# Altium footprint library CI.PcbLib: 7 footprints
Each footprint in its own frame and in the unit in brackets; x right, y up, seen from the top. Pads: shape width x height; smd on the part's side, far side on the other; paste and mask are expansions set on the pad; w line width, h text height; cw(c..) or ccw(c..) is an arc to the next point about the centre after c.
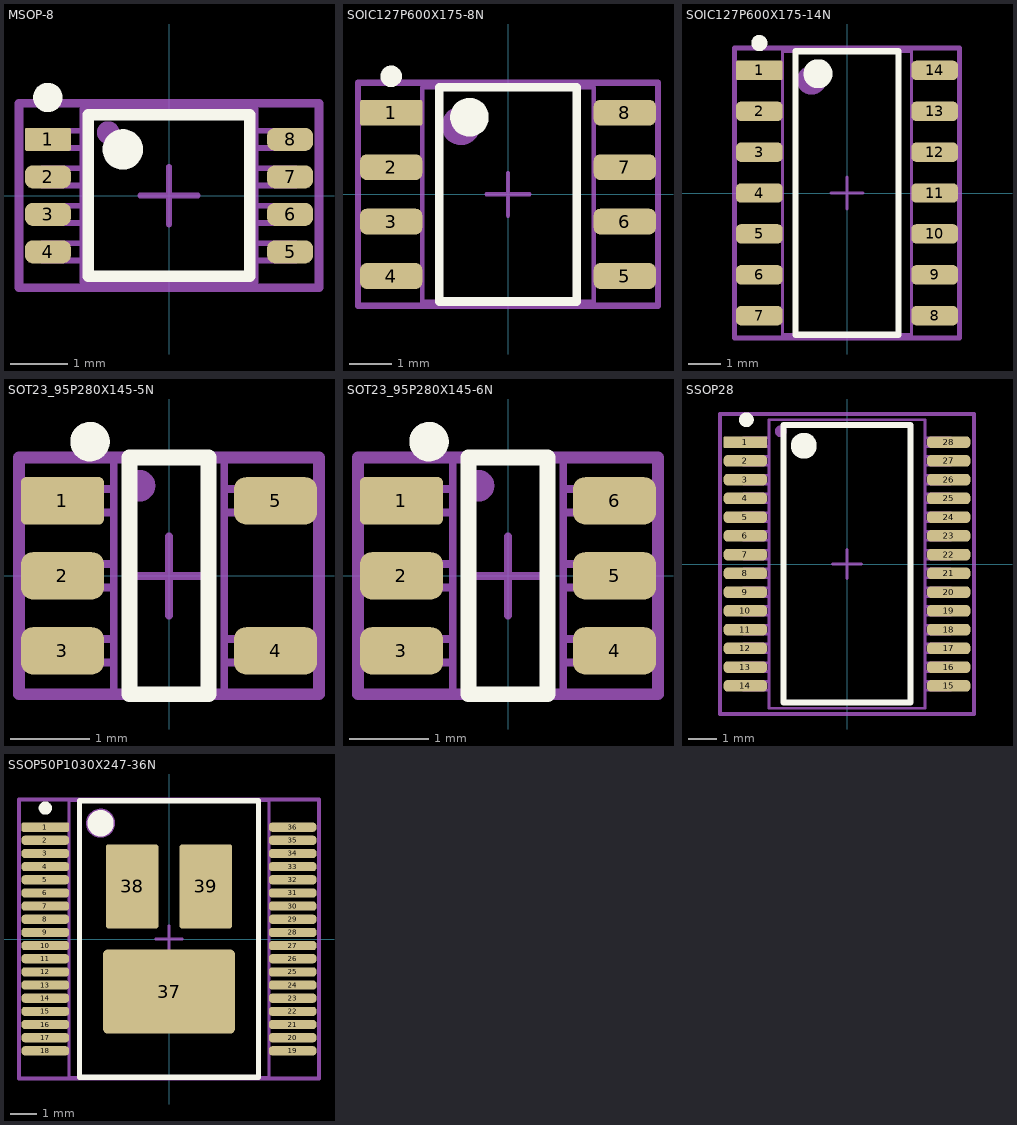
[diagram p0: the footprints below, top view; thin cyan lines are the x and y axes]

## MSOP-8 [mm]
pads (8):
  rrect15% 0.8x0.4 smd: 1(-2.1,0.975)
  rrect70% 0.8x0.4 smd: 2(-2.1,0.325) 3(-2.1,-0.325) 4(-2.1,-0.975) 5(2.1,-0.975) 6(2.1,-0.325) 7(2.1,0.325) 8(2.1,0.975)
Top Overlay:
  circle w0.4: c-0.8,0.8 r0.15
  circle w0.254: c-2.1,1.7 r0.127
  lines w0.2: -1.4,-1.4 1.4,-1.4 1.4,1.4 -1.4,1.4 -1.4,-1.4
Mechanical 13:
  circle w0.254: c-1.054,1.092 r0.068
  lines w0.1: -1.5,-1.125 -2.2,-1.125 -2.2,-0.825 -1.5,-0.825 ; -1.5,-0.475 -2.2,-0.475 -2.2,-0.175 -1.5,-0.175 ; -1.5,0.175 -2.2,0.175 -2.2,0.475 -1.5,0.475 ; -1.5,0.825 -2.2,0.825 -2.2,1.125 -1.5,1.125 ; 1.5,-1.125 2.2,-1.125 2.2,-0.825 1.5,-0.825 ; 1.5,-0.475 2.2,-0.475 2.2,-0.175 1.5,-0.175 ; 1.5,0.175 2.2,0.175 2.2,0.475 1.5,0.475 ; 1.5,0.825 2.2,0.825 2.2,1.125 1.5,1.125 ; -1.5,-1.5 -1.5,1.5 1.5,1.5 1.5,-1.5 -1.5,-1.5
Mechanical 15:
  lines w0.1: -0.5,0 0.5,0 ; 0,-0.5 0,0.5
  lines w0.15: -2.6,-1.6 2.6,-1.6 2.6,1.6 -2.6,1.6 -2.6,-1.6
Mechanical 17:
  text ".Designator" at -1.046,-0.162 h1.5
3D body "User Library-MO-187F.step": height 1.08, standoff -0.02, extent -2.46,-1.5 2.46,1.5

## SOIC127P600X175-8N [mm] "SOIC, 8-Leads, Body 4,90x3,90mm, Pitch 1,27mm, IPC Medium Density"
height 1.75
pads (8):
  rrect15% 1.45x0.6 smd: 1(-2.725,1.905)
  rrect50% 1.45x0.6 smd: 2(-2.725,0.635) 3(-2.725,-0.635) 4(-2.725,-1.905) 5(2.725,-1.905) 6(2.725,-0.635) 7(2.725,0.635) 8(2.725,1.905)
Top Overlay:
  circle w0.5: c-0.9,1.8 r0.2
  circle w0.25: c-2.725,2.755 r0.125
  lines w0.2: -1.6,-2.5 -1.6,2.5 1.6,2.5 1.6,-2.5 -1.6,-2.5
Mechanical 13:
  circle w0.5: c-1.1,1.6 r0.2
  lines w0.1: -2,-2.05 -2.7,-2.05 -2.7,-1.75 -2,-1.75 ; -2,-0.78 -2.7,-0.78 -2.7,-0.48 -2,-0.48 ; -2,0.49 -2.7,0.49 -2.7,0.79 -2,0.79 ; -2,1.76 -2.7,1.76 -2.7,2.06 -2,2.06 ; 2,-2.06 2.7,-2.06 2.7,-1.76 2,-1.76 ; 2,-0.79 2.7,-0.79 2.7,-0.49 2,-0.49 ; 2,0.48 2.7,0.48 2.7,0.78 2,0.78 ; 2,1.75 2.7,1.75 2.7,2.05 2,2.05 ; -2,-2.5 -2,2.5 2,2.5 2,-2.5 -2,-2.5
Mechanical 15:
  lines w0.1: -0.5,0 0.5,0 ; 0,-0.5 0,0.5
  lines w0.15: -3.5,-2.6 -3.5,2.6 3.5,2.6 3.5,-2.6 -3.5,-2.6
Mechanical 17:
  text ".Designator" at -1.046,-0.162 h1.5
3D body "SOIC127P600-8 (SO-8)2.stp": height 1.7, standoff 0, extent -3,-2.54 3,2.54

## SOIC127P600X175-14N [mm] "SOIC, 14-Leads, Body 8,62x3,90mm, Pitch 1,27mm, IPC Medium Density"
height 1.75
pads (14):
  rrect15% 1.45x0.6 smd: 1(-2.725,3.81)
  rrect50% 1.45x0.6 smd: 2(-2.725,2.54) 3(-2.725,1.27) 4(-2.725,0) 5(-2.725,-1.27) 6(-2.725,-2.54) 7(-2.725,-3.81) 8(2.725,-3.81) 9(2.725,-2.54) 10(2.725,-1.27) 11(2.725,0) 12(2.725,1.27) 13(2.725,2.54) 14(2.725,3.81)
Top Overlay:
  circle w0.5: c-0.9,3.705 r0.2
  circle w0.25: c-2.725,4.66 r0.125
  lines w0.2: -1.6,-4.405 -1.6,4.405 1.6,4.405 1.6,-4.405 -1.6,-4.405
Mechanical 13:
  circle w0.5: c-1.1,3.505 r0.2
  lines w0.1: -2,-3.955 -2.7,-3.955 -2.7,-3.655 -2,-3.655 ; -2,-2.685 -2.7,-2.685 -2.7,-2.385 -2,-2.385 ; -2,-1.415 -2.7,-1.415 -2.7,-1.115 -2,-1.115 ; -2,-0.145 -2.7,-0.145 -2.7,0.155 -2,0.155 ; -2,1.125 -2.7,1.125 -2.7,1.425 -2,1.425 ; -2,2.395 -2.7,2.395 -2.7,2.695 -2,2.695 ; -2,3.665 -2.7,3.665 -2.7,3.965 -2,3.965 ; 2,-3.965 2.7,-3.965 2.7,-3.665 2,-3.665 ; 2,-2.695 2.7,-2.695 2.7,-2.395 2,-2.395 ; 2,-1.425 2.7,-1.425 2.7,-1.125 2,-1.125 ; 2,-0.155 2.7,-0.155 2.7,0.145 2,0.145 ; 2,1.115 2.7,1.115 2.7,1.415 2,1.415 ; 2,2.385 2.7,2.385 2.7,2.685 2,2.685 ; 2,3.655 2.7,3.655 2.7,3.955 2,3.955 ; -2,-4.405 2,-4.405 2,4.405 -2,4.405 -2,-4.405
Mechanical 15:
  lines w0.1: -0.5,0 0.5,0 ; 0,-0.5 0,0.5
  lines w0.15: -3.5,-4.505 -3.5,4.505 3.5,4.505 3.5,-4.505 -3.5,-4.505
Mechanical 17:
  text ".Designator" at -1.046,-0.162 h1.5
3D body "SOIC127P600-14 (SO-14).stp": height 1.7, standoff 0, extent -3,-4.445 3,4.445

## SOT23_95P280X145-5N [mm] "SOT23, 5-Leads, Body 3,1x3,2mm (max), Pitch 0,95mm, IPC Medium Densit"
height 1.45
pads (5):
  rrect20% 1.05x0.6 smd paste-0.05 mask+0.07: 1(-1.35,0.95)
  rrect50% 1.05x0.6 smd paste-0.05 mask+0.07: 2(-1.35,0) 3(-1.35,-0.95) 4(1.35,-0.95) 5(1.35,0.95)
Top Overlay:
  circle w0.25: c-1,1.7 r0.125
  lines w0.2: -0.5,-1.5 0.5,-1.5 0.5,1.5 -0.5,1.5 -0.5,-1.5
Mechanical 13:
  circle w0.2: c-0.374,1.142 r0.1
  lines w0.1: -0.7,-1.1 -1.4,-1.1 -1.4,-0.8 -0.7,-0.8 ; -0.7,-0.15 -1.4,-0.15 -1.4,0.15 -0.7,0.15 ; -0.7,0.8 -1.4,0.8 -1.4,1.1 -0.7,1.1 ; 0.7,-1.1 1.4,-1.1 1.4,-0.8 0.7,-0.8 ; 0.7,0.8 1.4,0.8 1.4,1.1 0.7,1.1 ; -0.7,-1.525 -0.7,1.525 0.7,1.525 0.7,-1.525 -0.7,-1.525
Mechanical 15:
  lines w0.1: -0.5,0 0.5,0 ; 0,-0.5 0,0.5
  lines w0.15: -1.9,-1.5 -1.9,1.5 1.9,1.5 1.9,-1.5 -1.9,-1.5
Mechanical 17:
  text ".Designator" at -0.162,1.046 h1
3D body "SOT23_95P280X145-5N.stp": height 1.45, standoff 0, extent -1.6,-1.55 1.6,1.55

## SOT23_95P280X145-6N [mm] "SOT23, 6-Leads, Body 3,1x3,2mm (max), Pitch 0,95mm, IPC Medium Densit"
height 1.45
pads (6):
  rrect20% 1.05x0.6 smd paste-0.05 mask+0.07: 1(-1.35,0.95)
  rrect50% 1.05x0.6 smd paste-0.05 mask+0.07: 2(-1.35,0) 3(-1.35,-0.95) 4(1.35,-0.95) 5(1.35,0) 6(1.35,0.95)
Top Overlay:
  circle w0.25: c-1,1.7 r0.125
  lines w0.2: -0.5,-1.5 0.5,-1.5 0.5,1.5 -0.5,1.5 -0.5,-1.5
Mechanical 13:
  circle w0.2: c-0.374,1.142 r0.1
  lines w0.1: -0.7,-1.1 -1.4,-1.1 -1.4,-0.8 -0.7,-0.8 ; -0.7,-0.15 -1.4,-0.15 -1.4,0.15 -0.7,0.15 ; -0.7,0.8 -1.4,0.8 -1.4,1.1 -0.7,1.1 ; 0.7,-1.1 1.4,-1.1 1.4,-0.8 0.7,-0.8 ; 0.7,-0.15 1.4,-0.15 1.4,0.15 0.7,0.15 ; 0.7,0.8 1.4,0.8 1.4,1.1 0.7,1.1 ; -0.7,-1.525 -0.7,1.525 0.7,1.525 0.7,-1.525 -0.7,-1.525
Mechanical 15:
  lines w0.1: -0.5,0 0.5,0 ; 0,-0.5 0,0.5
  lines w0.15: -1.9,-1.5 -1.9,1.5 1.9,1.5 1.9,-1.5 -1.9,-1.5
Mechanical 17:
  text ".Designator" at -0.162,1.046 h1
3D body "SOT-23-6.STEP": height 1.45, standoff 0, extent -1.5,-1.525 1.5,1.525

## SSOP28 [mm]
pads (28):
  rrect15% 1.5x0.4 smd: 1(-3.525,4.225)
  rrect70% 1.5x0.4 smd: 2(-3.525,3.575) 3(-3.525,2.925) 4(-3.525,2.275) 5(-3.525,1.625) 6(-3.525,0.975) 7(-3.525,0.325) 8(-3.525,-0.325) 9(-3.525,-0.975) 10(-3.525,-1.625) 11(-3.525,-2.275) 12(-3.525,-2.925) 13(-3.525,-3.575) 14(-3.525,-4.225) 15(3.525,-4.225) 16(3.525,-3.575) 17(3.525,-2.925) 18(3.525,-2.275) 19(3.525,-1.625) 20(3.525,-0.975) 21(3.525,-0.325) 22(3.525,0.325) 23(3.525,0.975) 24(3.525,1.625) 25(3.525,2.275) 26(3.525,2.925) 27(3.525,3.575) 28(3.525,4.225)
Top Overlay:
  circle w0.5: c-1.5,4.1 r0.2
  circle w0.254: c-3.486,5 r0.127
  lines w0.2: -2.2,-4.8 -2.2,4.816 2.2,4.816 2.2,-4.8 -2.2,-4.8
Mechanical 13:
  circle w0.2: c-2.3,4.6 r0.1
  lines w0.1: -2.698,-4.375 -3.587,-4.375 -3.587,-4.075 -2.698,-4.075 ; -2.698,-3.725 -3.587,-3.725 -3.587,-3.425 -2.698,-3.425 ; -2.698,-3.075 -3.587,-3.075 -3.587,-2.775 -2.698,-2.775 ; -2.698,-2.425 -3.587,-2.425 -3.587,-2.125 -2.698,-2.125 ; -2.698,-1.775 -3.587,-1.775 -3.587,-1.475 -2.698,-1.475 ; -2.698,-1.125 -3.587,-1.125 -3.587,-0.825 -2.698,-0.825 ; -2.698,-0.475 -3.587,-0.475 -3.587,-0.175 -2.698,-0.175 ; -2.698,0.175 -3.587,0.175 -3.587,0.475 -2.698,0.475 ; -2.698,0.825 -3.587,0.825 -3.587,1.125 -2.698,1.125 ; -2.698,1.475 -3.587,1.475 -3.587,1.775 -2.698,1.775 ; -2.698,2.125 -3.587,2.125 -3.587,2.425 -2.698,2.425 ; -2.698,2.775 -3.587,2.775 -3.587,3.075 -2.698,3.075 ; -2.698,3.425 -3.587,3.425 -3.587,3.725 -2.698,3.725 ; -2.698,4.075 -3.587,4.075 -3.587,4.375 -2.698,4.375 ; 2.698,-4.375 3.587,-4.375 3.587,-4.075 2.698,-4.075 ; 2.698,-3.725 3.587,-3.725 3.587,-3.425 2.698,-3.425 ; 2.698,-3.075 3.587,-3.075 3.587,-2.775 2.698,-2.775 ; 2.698,-2.425 3.587,-2.425 3.587,-2.125 2.698,-2.125 ; 2.698,-1.775 3.587,-1.775 3.587,-1.475 2.698,-1.475 ; 2.698,-1.125 3.587,-1.125 3.587,-0.825 2.698,-0.825 ; 2.698,-0.475 3.587,-0.475 3.587,-0.175 2.698,-0.175 ; 2.698,0.175 3.587,0.175 3.587,0.475 2.698,0.475 ; 2.698,0.825 3.587,0.825 3.587,1.125 2.698,1.125 ; 2.698,1.475 3.587,1.475 3.587,1.775 2.698,1.775 ; 2.698,2.125 3.587,2.125 3.587,2.425 2.698,2.425 ; 2.698,2.775 3.587,2.775 3.587,3.075 2.698,3.075 ; 2.698,3.425 3.587,3.425 3.587,3.725 2.698,3.725 ; 2.698,4.075 3.587,4.075 3.587,4.375 2.698,4.375 ; -2.7,-5 2.7,-5 2.7,5 -2.7,5 -2.7,-5
Mechanical 15:
  lines w0.1: -0.5,0 0.5,0 ; 0,-0.5 0,0.5
  lines w0.15: -4.4,-5.2 4.4,-5.2 4.4,5.2 -4.4,5.2 -4.4,-5.2
Mechanical 17:
  text ".Designator" at -1.046,-0.162 h1.5
3D body "SSOP-28.step": height 2.11, standoff -0.05, extent -3.878,-5.165 3.878,5.165

## SSOP50P1030X247-36N [mm] "SSOP, 36-Leads, Body 10,30x7,50mm, Pitch 0,50mm, IPC Medium Density"
height 2.47
pads (39):
  rrect30% 1.8x0.35 smd: 1(-4.7,4.25)
  rrect70% 1.8x0.35 smd: 2(-4.7,3.75) 3(-4.7,3.25) 4(-4.7,2.75) 5(-4.7,2.25) 6(-4.7,1.75) 7(-4.7,1.25) 8(-4.7,0.75) 9(-4.7,0.25) 10(-4.7,-0.25) 11(-4.7,-0.75) 12(-4.7,-1.25) 13(-4.7,-1.75) 14(-4.7,-2.25) 15(-4.7,-2.75) 16(-4.7,-3.25) 17(-4.7,-3.75) 18(-4.7,-4.25) 19(4.7,-4.25) 20(4.7,-3.75) 21(4.7,-3.25) 22(4.7,-2.75) 23(4.7,-2.25) 24(4.7,-1.75) 25(4.7,-1.25) 26(4.7,-0.75) 27(4.7,-0.25) 28(4.7,0.25) 29(4.7,0.75) 30(4.7,1.25) 31(4.7,1.75) 32(4.7,2.25) 33(4.7,2.75) 34(4.7,3.25) 35(4.7,3.75) 36(4.7,4.25)
  rrect10% 5x3.2 smd: 37(0,-2)
  rrect10% 2x3.2 smd: 38(-1.4,2) 39(1.4,2)
Top Overlay:
  circle w0.6: c-2.6,4.4 r0.2
  circle w0.25: c-4.7,4.975 r0.125
  lines w0.2: -3.4,-5.25 3.4,-5.25 3.4,5.25 -3.4,5.25 -3.4,-5.25
Mechanical 13:
  circle w0.6: c-2.6,4.4 r0.25
  lines w0.1: -3.8,-5.25 3.8,-5.25 3.8,5.25 -3.8,5.25 -3.8,-5.25
Mechanical 15:
  lines w0.1: -0.5,0 0.5,0 ; 0,-0.5 0,0.5
  lines w0.15: -5.7,-5.3 5.7,-5.3 5.7,5.3 -5.7,5.3 -5.7,-5.3
Mechanical 17:
  text ".Designator" at -1.046,-0.162 h1.5
3D body "PowerSSO-36.STEP": height 2.31, standoff -0.02, extent -5.169,-5.15 5.169,5.15